# Altium footprint library Connector_PinSocket_1.27mm.PcbLib: 246 footprints (part 13 of 16)
Each footprint in its own frame and in the unit in brackets; x right, y up, seen from the top. Pads: shape width x height; smd on the part's side, far side on the other; paste and mask are expansions set on the pad; w line width, h text height; cw(c..) or ccw(c..) is an arc to the next point about the centre after c.
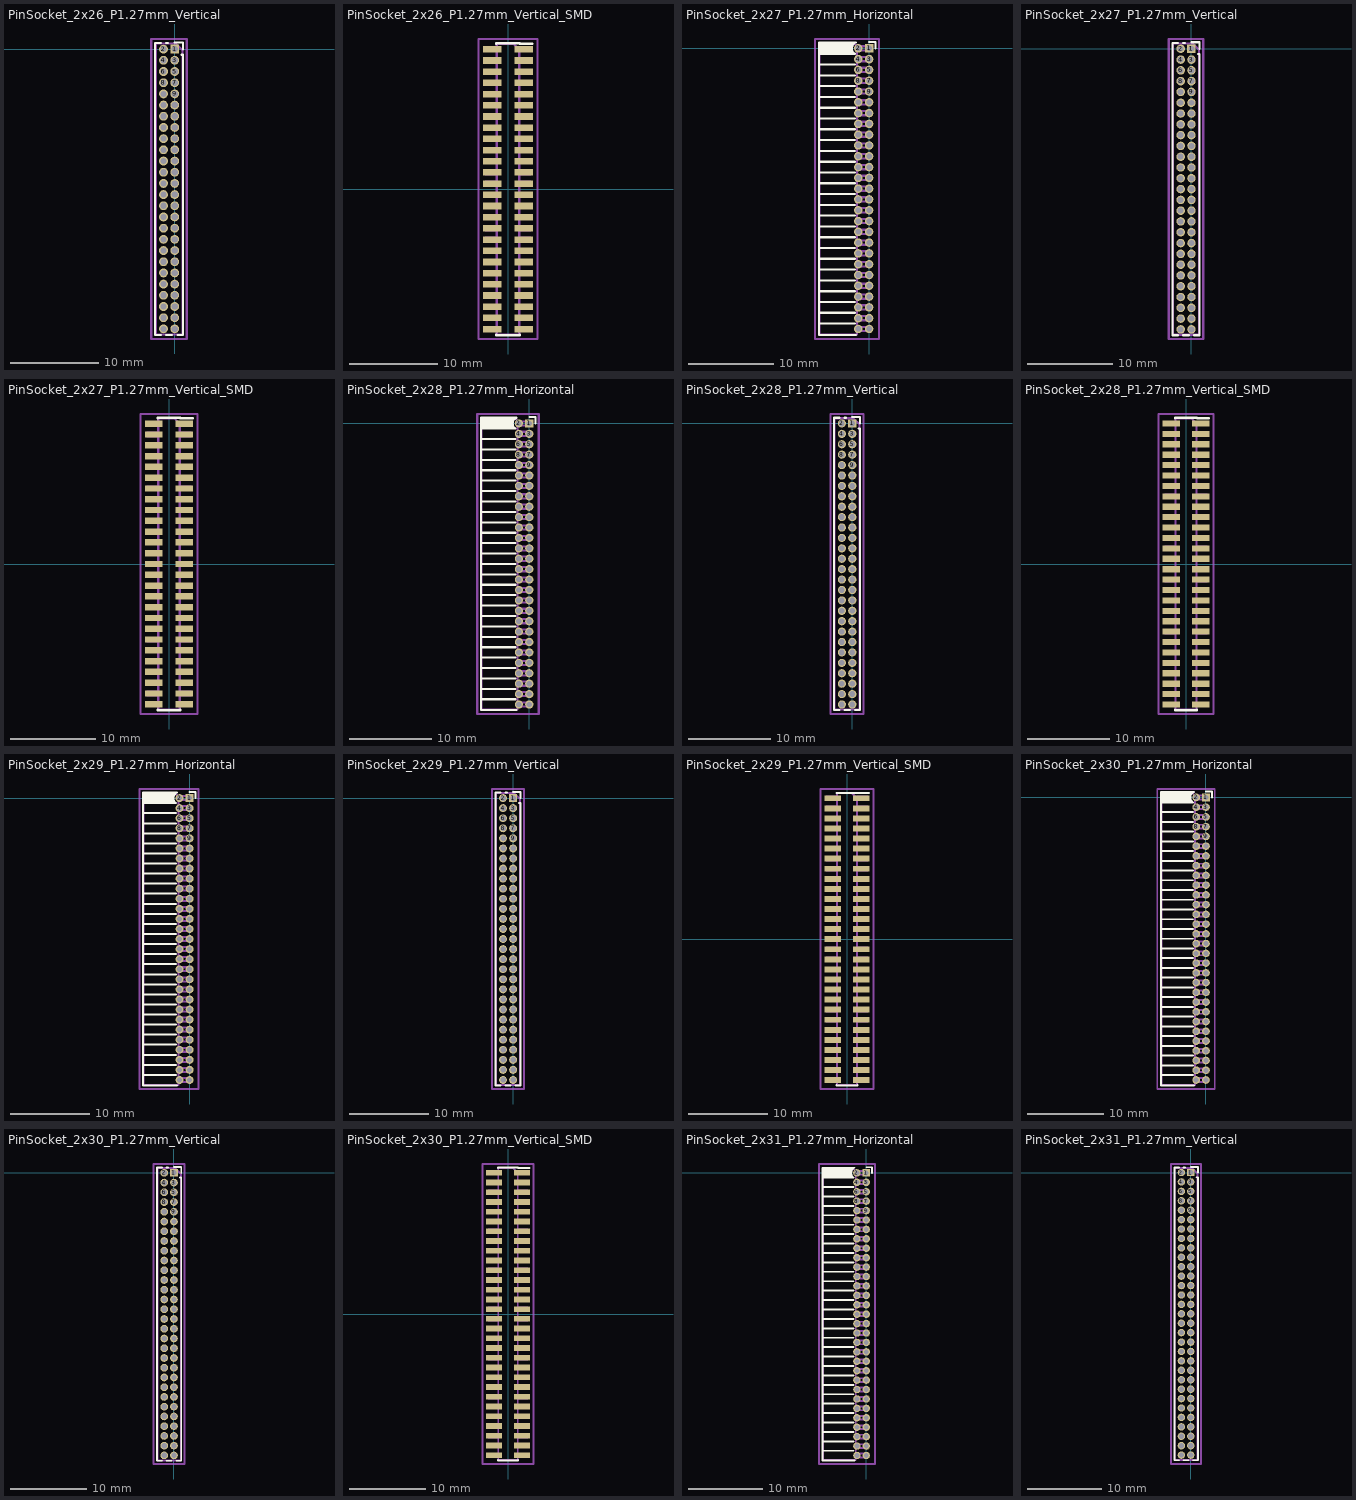
[diagram p12: the footprints below, top view; thin cyan lines are the x and y axes]

## PinSocket_2x26_P1.27mm_Vertical [mm]
pads (52):
  rect 1x1 hole 0.7: 1(0,0)
  round 1 hole 0.7: 2(-1.27,0) 3(0,-1.27) 4(-1.27,-1.27) 5(0,-2.54) 6(-1.27,-2.54) 7(0,-3.81) 8(-1.27,-3.81) 9(0,-5.08) 10(-1.27,-5.08) 11(0,-6.35) 12(-1.27,-6.35) 13(0,-7.62) 14(-1.27,-7.62) 15(0,-8.89) 16(-1.27,-8.89) 17(0,-10.16) 18(-1.27,-10.16) 19(0,-11.43) 20(-1.27,-11.43) 21(0,-12.7) 22(-1.27,-12.7) 23(0,-13.97) 24(-1.27,-13.97) 25(0,-15.24) 26(-1.27,-15.24) 27(0,-16.51) 28(-1.27,-16.51) 29(0,-17.78) 30(-1.27,-17.78) 31(0,-19.05) 32(-1.27,-19.05) 33(0,-20.32) 34(-1.27,-20.32) 35(0,-21.59) 36(-1.27,-21.59) 37(0,-22.86) 38(-1.27,-22.86) 39(0,-24.13) 40(-1.27,-24.13) 41(0,-25.4) 42(-1.27,-25.4) 43(0,-26.67) 44(-1.27,-26.67) 45(0,-27.94) 46(-1.27,-27.94) 47(0,-29.21) 48(-1.27,-29.21) 49(0,-30.48) 50(-1.27,-30.48) 51(0,-31.75) 52(-1.27,-31.75)
F.SilkS:
  lines w0.254: -1.578,-32.445 -2.22,-32.445 -2.22,0.695 -1.578,0.695 ; -0.962,-32.445 -0.308,-32.445 ; -0.962,0.695 -0.76,0.695 ; 0,0.76 0.95,0.76 0.95,0 ; 0.308,-32.445 0.95,-32.445 0.95,-0.635 0.76,-0.635
Top Assembly:
  lines w0.254: -2.16,-32.385 0.89,-32.385 0.89,-0.128 0.128,0.635 -2.16,0.635 -2.16,-32.385
  text "'.Designator'" at 0.205,-19.922 h1
Top Courtyard:
  lines w0.254: -2.67,-32.9 1.38,-32.9 1.38,1.15 -2.67,1.15 -2.67,-32.9
Top Designator:
  text ".Designator" at -8.263,-16.383 h1.52

## PinSocket_2x26_P1.27mm_Vertical_SMD [mm]
pads (52):
  rect 2.1x0.75 smd: 1(1.8,15.875) 2(-1.8,15.875) 3(1.8,14.605) 4(-1.8,14.605) 5(1.8,13.335) 6(-1.8,13.335) 7(1.8,12.065) 8(-1.8,12.065) 9(1.8,10.795) 10(-1.8,10.795) 11(1.8,9.525) 12(-1.8,9.525) 13(1.8,8.255) 14(-1.8,8.255) 15(1.8,6.985) 16(-1.8,6.985) 17(1.8,5.715) 18(-1.8,5.715) 19(1.8,4.445) 20(-1.8,4.445) 21(1.8,3.175) 22(-1.8,3.175) 23(1.8,1.905) 24(-1.8,1.905) 25(1.8,0.635) 26(-1.8,0.635) 27(1.8,-0.635) 28(-1.8,-0.635) 29(1.8,-1.905) 30(-1.8,-1.905) 31(1.8,-3.175) 32(-1.8,-3.175) 33(1.8,-4.445) 34(-1.8,-4.445) 35(1.8,-5.715) 36(-1.8,-5.715) 37(1.8,-6.985) 38(-1.8,-6.985) 39(1.8,-8.255) 40(-1.8,-8.255) 41(1.8,-9.525) 42(-1.8,-9.525) 43(1.8,-10.795) 44(-1.8,-10.795) 45(1.8,-12.065) 46(-1.8,-12.065) 47(1.8,-13.335) 48(-1.8,-13.335) 49(1.8,-14.605) 50(-1.8,-14.605) 51(1.8,-15.875) 52(-1.8,-15.875)
F.SilkS:
  lines w0.254: -1.33,-16.51 -1.33,-16.57 1.33,-16.57 1.33,-16.51 ; -1.33,16.51 -1.33,16.57 1.33,16.57 1.33,16.51 2.79,16.51
Top Assembly:
  drawing of 161 lines, arcs and shapes, not listed
  text "'.Designator'" at 0.84,-4.047 h1
Top Courtyard:
  lines w0.254: -3.35,-17 3.35,-17 3.35,17.05 -3.35,17.05 -3.35,-17
Top Designator:
  text ".Designator" at -7.618,-0.483 h1.52

## PinSocket_2x27_P1.27mm_Horizontal [mm]
pads (54):
  rect 1x1 hole 0.65: 1(0,0)
  round 1 hole 0.65: 2(-1.27,0) 3(0,-1.27) 4(-1.27,-1.27) 5(0,-2.54) 6(-1.27,-2.54) 7(0,-3.81) 8(-1.27,-3.81) 9(0,-5.08) 10(-1.27,-5.08) 11(0,-6.35) 12(-1.27,-6.35) 13(0,-7.62) 14(-1.27,-7.62) 15(0,-8.89) 16(-1.27,-8.89) 17(0,-10.16) 18(-1.27,-10.16) 19(0,-11.43) 20(-1.27,-11.43) 21(0,-12.7) 22(-1.27,-12.7) 23(0,-13.97) 24(-1.27,-13.97) 25(0,-15.24) 26(-1.27,-15.24) 27(0,-16.51) 28(-1.27,-16.51) 29(0,-17.78) 30(-1.27,-17.78) 31(0,-19.05) 32(-1.27,-19.05) 33(0,-20.32) 34(-1.27,-20.32) 35(0,-21.59) 36(-1.27,-21.59) 37(0,-22.86) 38(-1.27,-22.86) 39(0,-24.13) 40(-1.27,-24.13) 41(0,-25.4) 42(-1.27,-25.4) 43(0,-26.67) 44(-1.27,-26.67) 45(0,-27.94) 46(-1.27,-27.94) 47(0,-29.21) 48(-1.27,-29.21) 49(0,-30.48) 50(-1.27,-30.48) 51(0,-31.75) 52(-1.27,-31.75) 53(0,-33.02) 54(-1.27,-33.02)
F.SilkS:
  lines w0.254: -5.88,-32.385 -1.688,-32.385 ; -5.88,-31.115 -1.688,-31.115 ; -5.88,-29.845 -1.688,-29.845 ; -5.88,-28.575 -1.688,-28.575 ; -5.88,-27.305 -1.688,-27.305 ; -5.88,-26.035 -1.688,-26.035 ; -5.88,-24.765 -1.688,-24.765 ; -5.88,-23.495 -1.688,-23.495 ; -5.88,-22.225 -1.688,-22.225 ; -5.88,-20.955 -1.688,-20.955 ; -5.88,-19.685 -1.688,-19.685 ; -5.88,-18.415 -1.688,-18.415 ; -5.88,-17.145 -1.688,-17.145 ; -5.88,-15.875 -1.688,-15.875 ; -5.88,-14.605 -1.688,-14.605 ; -5.88,-13.335 -1.688,-13.335 ; -5.88,-12.065 -1.688,-12.065 ; -5.88,-10.795 -1.688,-10.795 ; -5.88,-9.525 -1.688,-9.525 ; -5.88,-8.255 -1.688,-8.255 ; -5.88,-6.985 -1.688,-6.985 ; -5.88,-5.715 -1.688,-5.715 ; -5.88,-4.445 -1.688,-4.445 ; -5.88,-3.175 -1.688,-3.175 ; -5.88,-1.905 -1.688,-1.905 ; -5.88,-0.635 -1.688,-0.635 ; -5.88,-0.525 -1.82,-0.525 ; -5.88,-0.415 -1.907,-0.415 ; -5.88,-0.305 -1.966,-0.305 ; -5.88,-0.195 -2.005,-0.195 ; -5.88,-0.085 -2.025,-0.085 ; -5.88,0.025 -2.03,0.025 ; -5.88,0.135 -2.018,0.135 ; -5.88,0.245 -1.989,0.245 ; -5.88,0.355 -1.942,0.355 ; -5.88,0.465 -1.871,0.465 ; -5.88,0.575 -1.767,0.575 ; -1.578,-33.715 -5.88,-33.715 -5.88,0.695 -1.578,0.695 ; 0,0.76 0.76,0.76 0.76,0
Top Assembly:
  lines w0.254: -1.42,-33.27 0,-33.27 0,-32.77 -1.42,-32.77 ; -1.42,-32 0,-32 0,-31.5 -1.42,-31.5 ; -1.42,-30.73 0,-30.73 0,-30.23 -1.42,-30.23 ; -1.42,-29.46 0,-29.46 0,-28.96 -1.42,-28.96 ; -1.42,-28.19 0,-28.19 0,-27.69 -1.42,-27.69 ; -1.42,-26.92 0,-26.92 0,-26.42 -1.42,-26.42 ; -1.42,-25.65 0,-25.65 0,-25.15 -1.42,-25.15 ; -1.42,-24.38 0,-24.38 0,-23.88 -1.42,-23.88 ; -1.42,-23.11 0,-23.11 0,-22.61 -1.42,-22.61 ; -1.42,-21.84 0,-21.84 0,-21.34 -1.42,-21.34 ; -1.42,-20.57 0,-20.57 0,-20.07 -1.42,-20.07 ; -1.42,-19.3 0,-19.3 0,-18.8 -1.42,-18.8 ; -1.42,-18.03 0,-18.03 0,-17.53 -1.42,-17.53 ; -1.42,-16.76 0,-16.76 0,-16.26 -1.42,-16.26 ; -1.42,-15.49 0,-15.49 0,-14.99 -1.42,-14.99 ; -1.42,-14.22 0,-14.22 0,-13.72 -1.42,-13.72 ; -1.42,-12.95 0,-12.95 0,-12.45 -1.42,-12.45 ; -1.42,-11.68 0,-11.68 0,-11.18 -1.42,-11.18 ; -1.42,-10.41 0,-10.41 0,-9.91 -1.42,-9.91 ; -1.42,-9.14 0,-9.14 0,-8.64 -1.42,-8.64 ; -1.42,-7.87 0,-7.87 0,-7.37 -1.42,-7.37 ; -1.42,-6.6 0,-6.6 0,-6.1 -1.42,-6.1 ; -1.42,-5.33 0,-5.33 0,-4.83 -1.42,-4.83 ; -1.42,-4.06 0,-4.06 0,-3.56 -1.42,-3.56 ; -1.42,-2.79 0,-2.79 0,-2.29 -1.42,-2.29 ; -1.42,-1.52 0,-1.52 0,-1.02 -1.42,-1.02 ; -1.42,-0.25 0,-0.25 0,0.25 -1.42,0.25 ; -1.42,0.25 -1.42,-33.655 -5.82,-33.655 -5.82,0.635 -1.805,0.635 -1.42,0.25
  text "'.Designator'" at -2.78,-20.557 h1
Top Courtyard:
  lines w0.254: -6.35,-34.2 1.15,-34.2 1.15,1.1 -6.35,1.1 -6.35,-34.2
Top Designator:
  text ".Designator" at -10.218,-17.058 h1.52

## PinSocket_2x27_P1.27mm_Vertical [mm]
pads (54):
  rect 1x1 hole 0.7: 1(0,0)
  round 1 hole 0.7: 2(-1.27,0) 3(0,-1.27) 4(-1.27,-1.27) 5(0,-2.54) 6(-1.27,-2.54) 7(0,-3.81) 8(-1.27,-3.81) 9(0,-5.08) 10(-1.27,-5.08) 11(0,-6.35) 12(-1.27,-6.35) 13(0,-7.62) 14(-1.27,-7.62) 15(0,-8.89) 16(-1.27,-8.89) 17(0,-10.16) 18(-1.27,-10.16) 19(0,-11.43) 20(-1.27,-11.43) 21(0,-12.7) 22(-1.27,-12.7) 23(0,-13.97) 24(-1.27,-13.97) 25(0,-15.24) 26(-1.27,-15.24) 27(0,-16.51) 28(-1.27,-16.51) 29(0,-17.78) 30(-1.27,-17.78) 31(0,-19.05) 32(-1.27,-19.05) 33(0,-20.32) 34(-1.27,-20.32) 35(0,-21.59) 36(-1.27,-21.59) 37(0,-22.86) 38(-1.27,-22.86) 39(0,-24.13) 40(-1.27,-24.13) 41(0,-25.4) 42(-1.27,-25.4) 43(0,-26.67) 44(-1.27,-26.67) 45(0,-27.94) 46(-1.27,-27.94) 47(0,-29.21) 48(-1.27,-29.21) 49(0,-30.48) 50(-1.27,-30.48) 51(0,-31.75) 52(-1.27,-31.75) 53(0,-33.02) 54(-1.27,-33.02)
F.SilkS:
  lines w0.254: -1.578,-33.715 -2.22,-33.715 -2.22,0.695 -1.578,0.695 ; -0.962,-33.715 -0.308,-33.715 ; -0.962,0.695 -0.76,0.695 ; 0,0.76 0.95,0.76 0.95,0 ; 0.308,-33.715 0.95,-33.715 0.95,-0.635 0.76,-0.635
Top Assembly:
  lines w0.254: -2.16,-33.655 0.89,-33.655 0.89,-0.128 0.128,0.635 -2.16,0.635 -2.16,-33.655
  text "'.Designator'" at 0.205,-20.557 h1
Top Courtyard:
  lines w0.254: -2.67,-34.15 1.38,-34.15 1.38,1.15 -2.67,1.15 -2.67,-34.15
Top Designator:
  text ".Designator" at -8.263,-17.008 h1.52

## PinSocket_2x27_P1.27mm_Vertical_SMD [mm]
pads (54):
  rect 2.1x0.75 smd: 1(1.8,16.51) 2(-1.8,16.51) 3(1.8,15.24) 4(-1.8,15.24) 5(1.8,13.97) 6(-1.8,13.97) 7(1.8,12.7) 8(-1.8,12.7) 9(1.8,11.43) 10(-1.8,11.43) 11(1.8,10.16) 12(-1.8,10.16) 13(1.8,8.89) 14(-1.8,8.89) 15(1.8,7.62) 16(-1.8,7.62) 17(1.8,6.35) 18(-1.8,6.35) 19(1.8,5.08) 20(-1.8,5.08) 21(1.8,3.81) 22(-1.8,3.81) 23(1.8,2.54) 24(-1.8,2.54) 25(1.8,1.27) 26(-1.8,1.27) 27(1.8,0) 28(-1.8,0) 29(1.8,-1.27) 30(-1.8,-1.27) 31(1.8,-2.54) 32(-1.8,-2.54) 33(1.8,-3.81) 34(-1.8,-3.81) 35(1.8,-5.08) 36(-1.8,-5.08) 37(1.8,-6.35) 38(-1.8,-6.35) 39(1.8,-7.62) 40(-1.8,-7.62) 41(1.8,-8.89) 42(-1.8,-8.89) 43(1.8,-10.16) 44(-1.8,-10.16) 45(1.8,-11.43) 46(-1.8,-11.43) 47(1.8,-12.7) 48(-1.8,-12.7) 49(1.8,-13.97) 50(-1.8,-13.97) 51(1.8,-15.24) 52(-1.8,-15.24) 53(1.8,-16.51) 54(-1.8,-16.51)
F.SilkS:
  lines w0.254: -1.33,-17.145 -1.33,-17.205 1.33,-17.205 1.33,-17.145 ; -1.33,17.145 -1.33,17.205 1.33,17.205 1.33,17.145 2.79,17.145
Top Assembly:
  drawing of 167 lines, arcs and shapes, not listed
  text "'.Designator'" at 0.84,-4.047 h1
Top Courtyard:
  lines w0.254: -3.35,-17.65 3.35,-17.65 3.35,17.65 -3.35,17.65 -3.35,-17.65
Top Designator:
  text ".Designator" at -7.618,-0.508 h1.52

## PinSocket_2x28_P1.27mm_Horizontal [mm]
pads (56):
  rect 1x1 hole 0.65: 1(0,0)
  round 1 hole 0.65: 2(-1.27,0) 3(0,-1.27) 4(-1.27,-1.27) 5(0,-2.54) 6(-1.27,-2.54) 7(0,-3.81) 8(-1.27,-3.81) 9(0,-5.08) 10(-1.27,-5.08) 11(0,-6.35) 12(-1.27,-6.35) 13(0,-7.62) 14(-1.27,-7.62) 15(0,-8.89) 16(-1.27,-8.89) 17(0,-10.16) 18(-1.27,-10.16) 19(0,-11.43) 20(-1.27,-11.43) 21(0,-12.7) 22(-1.27,-12.7) 23(0,-13.97) 24(-1.27,-13.97) 25(0,-15.24) 26(-1.27,-15.24) 27(0,-16.51) 28(-1.27,-16.51) 29(0,-17.78) 30(-1.27,-17.78) 31(0,-19.05) 32(-1.27,-19.05) 33(0,-20.32) 34(-1.27,-20.32) 35(0,-21.59) 36(-1.27,-21.59) 37(0,-22.86) 38(-1.27,-22.86) 39(0,-24.13) 40(-1.27,-24.13) 41(0,-25.4) 42(-1.27,-25.4) 43(0,-26.67) 44(-1.27,-26.67) 45(0,-27.94) 46(-1.27,-27.94) 47(0,-29.21) 48(-1.27,-29.21) 49(0,-30.48) 50(-1.27,-30.48) 51(0,-31.75) 52(-1.27,-31.75) 53(0,-33.02) 54(-1.27,-33.02) 55(0,-34.29) 56(-1.27,-34.29)
F.SilkS:
  lines w0.254: -5.88,-33.655 -1.688,-33.655 ; -5.88,-32.385 -1.688,-32.385 ; -5.88,-31.115 -1.688,-31.115 ; -5.88,-29.845 -1.688,-29.845 ; -5.88,-28.575 -1.688,-28.575 ; -5.88,-27.305 -1.688,-27.305 ; -5.88,-26.035 -1.688,-26.035 ; -5.88,-24.765 -1.688,-24.765 ; -5.88,-23.495 -1.688,-23.495 ; -5.88,-22.225 -1.688,-22.225 ; -5.88,-20.955 -1.688,-20.955 ; -5.88,-19.685 -1.688,-19.685 ; -5.88,-18.415 -1.688,-18.415 ; -5.88,-17.145 -1.688,-17.145 ; -5.88,-15.875 -1.688,-15.875 ; -5.88,-14.605 -1.688,-14.605 ; -5.88,-13.335 -1.688,-13.335 ; -5.88,-12.065 -1.688,-12.065 ; -5.88,-10.795 -1.688,-10.795 ; -5.88,-9.525 -1.688,-9.525 ; -5.88,-8.255 -1.688,-8.255 ; -5.88,-6.985 -1.688,-6.985 ; -5.88,-5.715 -1.688,-5.715 ; -5.88,-4.445 -1.688,-4.445 ; -5.88,-3.175 -1.688,-3.175 ; -5.88,-1.905 -1.688,-1.905 ; -5.88,-0.635 -1.688,-0.635 ; -5.88,-0.525 -1.82,-0.525 ; -5.88,-0.415 -1.907,-0.415 ; -5.88,-0.305 -1.966,-0.305 ; -5.88,-0.195 -2.005,-0.195 ; -5.88,-0.085 -2.025,-0.085 ; -5.88,0.025 -2.03,0.025 ; -5.88,0.135 -2.018,0.135 ; -5.88,0.245 -1.989,0.245 ; -5.88,0.355 -1.942,0.355 ; -5.88,0.465 -1.871,0.465 ; -5.88,0.575 -1.767,0.575 ; -1.578,-34.985 -5.88,-34.985 -5.88,0.695 -1.578,0.695 ; 0,0.76 0.76,0.76 0.76,0
Top Assembly:
  lines w0.254: -1.42,-34.54 0,-34.54 0,-34.04 -1.42,-34.04 ; -1.42,-33.27 0,-33.27 0,-32.77 -1.42,-32.77 ; -1.42,-32 0,-32 0,-31.5 -1.42,-31.5 ; -1.42,-30.73 0,-30.73 0,-30.23 -1.42,-30.23 ; -1.42,-29.46 0,-29.46 0,-28.96 -1.42,-28.96 ; -1.42,-28.19 0,-28.19 0,-27.69 -1.42,-27.69 ; -1.42,-26.92 0,-26.92 0,-26.42 -1.42,-26.42 ; -1.42,-25.65 0,-25.65 0,-25.15 -1.42,-25.15 ; -1.42,-24.38 0,-24.38 0,-23.88 -1.42,-23.88 ; -1.42,-23.11 0,-23.11 0,-22.61 -1.42,-22.61 ; -1.42,-21.84 0,-21.84 0,-21.34 -1.42,-21.34 ; -1.42,-20.57 0,-20.57 0,-20.07 -1.42,-20.07 ; -1.42,-19.3 0,-19.3 0,-18.8 -1.42,-18.8 ; -1.42,-18.03 0,-18.03 0,-17.53 -1.42,-17.53 ; -1.42,-16.76 0,-16.76 0,-16.26 -1.42,-16.26 ; -1.42,-15.49 0,-15.49 0,-14.99 -1.42,-14.99 ; -1.42,-14.22 0,-14.22 0,-13.72 -1.42,-13.72 ; -1.42,-12.95 0,-12.95 0,-12.45 -1.42,-12.45 ; -1.42,-11.68 0,-11.68 0,-11.18 -1.42,-11.18 ; -1.42,-10.41 0,-10.41 0,-9.91 -1.42,-9.91 ; -1.42,-9.14 0,-9.14 0,-8.64 -1.42,-8.64 ; -1.42,-7.87 0,-7.87 0,-7.37 -1.42,-7.37 ; -1.42,-6.6 0,-6.6 0,-6.1 -1.42,-6.1 ; -1.42,-5.33 0,-5.33 0,-4.83 -1.42,-4.83 ; -1.42,-4.06 0,-4.06 0,-3.56 -1.42,-3.56 ; -1.42,-2.79 0,-2.79 0,-2.29 -1.42,-2.29 ; -1.42,-1.52 0,-1.52 0,-1.02 -1.42,-1.02 ; -1.42,-0.25 0,-0.25 0,0.25 -1.42,0.25 ; -1.42,0.25 -1.42,-34.925 -5.82,-34.925 -5.82,0.635 -1.805,0.635 -1.42,0.25
  text "'.Designator'" at -2.78,-21.192 h1
Top Courtyard:
  lines w0.254: -6.35,-35.45 1.15,-35.45 1.15,1.15 -6.35,1.15 -6.35,-35.45
Top Designator:
  text ".Designator" at -10.218,-17.658 h1.52

## PinSocket_2x28_P1.27mm_Vertical [mm]
pads (56):
  rect 1x1 hole 0.7: 1(0,0)
  round 1 hole 0.7: 2(-1.27,0) 3(0,-1.27) 4(-1.27,-1.27) 5(0,-2.54) 6(-1.27,-2.54) 7(0,-3.81) 8(-1.27,-3.81) 9(0,-5.08) 10(-1.27,-5.08) 11(0,-6.35) 12(-1.27,-6.35) 13(0,-7.62) 14(-1.27,-7.62) 15(0,-8.89) 16(-1.27,-8.89) 17(0,-10.16) 18(-1.27,-10.16) 19(0,-11.43) 20(-1.27,-11.43) 21(0,-12.7) 22(-1.27,-12.7) 23(0,-13.97) 24(-1.27,-13.97) 25(0,-15.24) 26(-1.27,-15.24) 27(0,-16.51) 28(-1.27,-16.51) 29(0,-17.78) 30(-1.27,-17.78) 31(0,-19.05) 32(-1.27,-19.05) 33(0,-20.32) 34(-1.27,-20.32) 35(0,-21.59) 36(-1.27,-21.59) 37(0,-22.86) 38(-1.27,-22.86) 39(0,-24.13) 40(-1.27,-24.13) 41(0,-25.4) 42(-1.27,-25.4) 43(0,-26.67) 44(-1.27,-26.67) 45(0,-27.94) 46(-1.27,-27.94) 47(0,-29.21) 48(-1.27,-29.21) 49(0,-30.48) 50(-1.27,-30.48) 51(0,-31.75) 52(-1.27,-31.75) 53(0,-33.02) 54(-1.27,-33.02) 55(0,-34.29) 56(-1.27,-34.29)
F.SilkS:
  lines w0.254: -1.578,-34.985 -2.22,-34.985 -2.22,0.695 -1.578,0.695 ; -0.962,-34.985 -0.308,-34.985 ; -0.962,0.695 -0.76,0.695 ; 0,0.76 0.95,0.76 0.95,0 ; 0.308,-34.985 0.95,-34.985 0.95,-0.635 0.76,-0.635
Top Assembly:
  lines w0.254: -2.16,-34.925 0.89,-34.925 0.89,-0.128 0.128,0.635 -2.16,0.635 -2.16,-34.925
  text "'.Designator'" at 0.205,-21.192 h1
Top Courtyard:
  lines w0.254: -2.67,-35.45 1.38,-35.45 1.38,1.15 -2.67,1.15 -2.67,-35.45
Top Designator:
  text ".Designator" at -8.263,-17.658 h1.52

## PinSocket_2x28_P1.27mm_Vertical_SMD [mm]
pads (56):
  rect 2.1x0.75 smd: 1(1.8,17.145) 2(-1.8,17.145) 3(1.8,15.875) 4(-1.8,15.875) 5(1.8,14.605) 6(-1.8,14.605) 7(1.8,13.335) 8(-1.8,13.335) 9(1.8,12.065) 10(-1.8,12.065) 11(1.8,10.795) 12(-1.8,10.795) 13(1.8,9.525) 14(-1.8,9.525) 15(1.8,8.255) 16(-1.8,8.255) 17(1.8,6.985) 18(-1.8,6.985) 19(1.8,5.715) 20(-1.8,5.715) 21(1.8,4.445) 22(-1.8,4.445) 23(1.8,3.175) 24(-1.8,3.175) 25(1.8,1.905) 26(-1.8,1.905) 27(1.8,0.635) 28(-1.8,0.635) 29(1.8,-0.635) 30(-1.8,-0.635) 31(1.8,-1.905) 32(-1.8,-1.905) 33(1.8,-3.175) 34(-1.8,-3.175) 35(1.8,-4.445) 36(-1.8,-4.445) 37(1.8,-5.715) 38(-1.8,-5.715) 39(1.8,-6.985) 40(-1.8,-6.985) 41(1.8,-8.255) 42(-1.8,-8.255) 43(1.8,-9.525) 44(-1.8,-9.525) 45(1.8,-10.795) 46(-1.8,-10.795) 47(1.8,-12.065) 48(-1.8,-12.065) 49(1.8,-13.335) 50(-1.8,-13.335) 51(1.8,-14.605) 52(-1.8,-14.605) 53(1.8,-15.875) 54(-1.8,-15.875) 55(1.8,-17.145) 56(-1.8,-17.145)
F.SilkS:
  lines w0.254: -1.33,-17.78 -1.33,-17.84 1.33,-17.84 1.33,-17.78 ; -1.33,17.78 -1.33,17.84 1.33,17.84 1.33,17.78 2.79,17.78
Top Assembly:
  drawing of 173 lines, arcs and shapes, not listed
  text "'.Designator'" at 0.84,-4.047 h1
Top Courtyard:
  lines w0.254: -3.35,-18.3 3.35,-18.3 3.35,18.3 -3.35,18.3 -3.35,-18.3
Top Designator:
  text ".Designator" at -7.618,-0.508 h1.52

## PinSocket_2x29_P1.27mm_Horizontal [mm]
pads (58):
  rect 1x1 hole 0.65: 1(0,0)
  round 1 hole 0.65: 2(-1.27,0) 3(0,-1.27) 4(-1.27,-1.27) 5(0,-2.54) 6(-1.27,-2.54) 7(0,-3.81) 8(-1.27,-3.81) 9(0,-5.08) 10(-1.27,-5.08) 11(0,-6.35) 12(-1.27,-6.35) 13(0,-7.62) 14(-1.27,-7.62) 15(0,-8.89) 16(-1.27,-8.89) 17(0,-10.16) 18(-1.27,-10.16) 19(0,-11.43) 20(-1.27,-11.43) 21(0,-12.7) 22(-1.27,-12.7) 23(0,-13.97) 24(-1.27,-13.97) 25(0,-15.24) 26(-1.27,-15.24) 27(0,-16.51) 28(-1.27,-16.51) 29(0,-17.78) 30(-1.27,-17.78) 31(0,-19.05) 32(-1.27,-19.05) 33(0,-20.32) 34(-1.27,-20.32) 35(0,-21.59) 36(-1.27,-21.59) 37(0,-22.86) 38(-1.27,-22.86) 39(0,-24.13) 40(-1.27,-24.13) 41(0,-25.4) 42(-1.27,-25.4) 43(0,-26.67) 44(-1.27,-26.67) 45(0,-27.94) 46(-1.27,-27.94) 47(0,-29.21) 48(-1.27,-29.21) 49(0,-30.48) 50(-1.27,-30.48) 51(0,-31.75) 52(-1.27,-31.75) 53(0,-33.02) 54(-1.27,-33.02) 55(0,-34.29) 56(-1.27,-34.29) 57(0,-35.56) 58(-1.27,-35.56)
F.SilkS:
  lines w0.254: -5.88,-34.925 -1.688,-34.925 ; -5.88,-33.655 -1.688,-33.655 ; -5.88,-32.385 -1.688,-32.385 ; -5.88,-31.115 -1.688,-31.115 ; -5.88,-29.845 -1.688,-29.845 ; -5.88,-28.575 -1.688,-28.575 ; -5.88,-27.305 -1.688,-27.305 ; -5.88,-26.035 -1.688,-26.035 ; -5.88,-24.765 -1.688,-24.765 ; -5.88,-23.495 -1.688,-23.495 ; -5.88,-22.225 -1.688,-22.225 ; -5.88,-20.955 -1.688,-20.955 ; -5.88,-19.685 -1.688,-19.685 ; -5.88,-18.415 -1.688,-18.415 ; -5.88,-17.145 -1.688,-17.145 ; -5.88,-15.875 -1.688,-15.875 ; -5.88,-14.605 -1.688,-14.605 ; -5.88,-13.335 -1.688,-13.335 ; -5.88,-12.065 -1.688,-12.065 ; -5.88,-10.795 -1.688,-10.795 ; -5.88,-9.525 -1.688,-9.525 ; -5.88,-8.255 -1.688,-8.255 ; -5.88,-6.985 -1.688,-6.985 ; -5.88,-5.715 -1.688,-5.715 ; -5.88,-4.445 -1.688,-4.445 ; -5.88,-3.175 -1.688,-3.175 ; -5.88,-1.905 -1.688,-1.905 ; -5.88,-0.635 -1.688,-0.635 ; -5.88,-0.525 -1.82,-0.525 ; -5.88,-0.415 -1.907,-0.415 ; -5.88,-0.305 -1.966,-0.305 ; -5.88,-0.195 -2.005,-0.195 ; -5.88,-0.085 -2.025,-0.085 ; -5.88,0.025 -2.03,0.025 ; -5.88,0.135 -2.018,0.135 ; -5.88,0.245 -1.989,0.245 ; -5.88,0.355 -1.942,0.355 ; -5.88,0.465 -1.871,0.465 ; -5.88,0.575 -1.767,0.575 ; -1.578,-36.255 -5.88,-36.255 -5.88,0.695 -1.578,0.695 ; 0,0.76 0.76,0.76 0.76,0
Top Assembly:
  lines w0.254: -1.42,-35.81 0,-35.81 0,-35.31 -1.42,-35.31 ; -1.42,-34.54 0,-34.54 0,-34.04 -1.42,-34.04 ; -1.42,-33.27 0,-33.27 0,-32.77 -1.42,-32.77 ; -1.42,-32 0,-32 0,-31.5 -1.42,-31.5 ; -1.42,-30.73 0,-30.73 0,-30.23 -1.42,-30.23 ; -1.42,-29.46 0,-29.46 0,-28.96 -1.42,-28.96 ; -1.42,-28.19 0,-28.19 0,-27.69 -1.42,-27.69 ; -1.42,-26.92 0,-26.92 0,-26.42 -1.42,-26.42 ; -1.42,-25.65 0,-25.65 0,-25.15 -1.42,-25.15 ; -1.42,-24.38 0,-24.38 0,-23.88 -1.42,-23.88 ; -1.42,-23.11 0,-23.11 0,-22.61 -1.42,-22.61 ; -1.42,-21.84 0,-21.84 0,-21.34 -1.42,-21.34 ; -1.42,-20.57 0,-20.57 0,-20.07 -1.42,-20.07 ; -1.42,-19.3 0,-19.3 0,-18.8 -1.42,-18.8 ; -1.42,-18.03 0,-18.03 0,-17.53 -1.42,-17.53 ; -1.42,-16.76 0,-16.76 0,-16.26 -1.42,-16.26 ; -1.42,-15.49 0,-15.49 0,-14.99 -1.42,-14.99 ; -1.42,-14.22 0,-14.22 0,-13.72 -1.42,-13.72 ; -1.42,-12.95 0,-12.95 0,-12.45 -1.42,-12.45 ; -1.42,-11.68 0,-11.68 0,-11.18 -1.42,-11.18 ; -1.42,-10.41 0,-10.41 0,-9.91 -1.42,-9.91 ; -1.42,-9.14 0,-9.14 0,-8.64 -1.42,-8.64 ; -1.42,-7.87 0,-7.87 0,-7.37 -1.42,-7.37 ; -1.42,-6.6 0,-6.6 0,-6.1 -1.42,-6.1 ; -1.42,-5.33 0,-5.33 0,-4.83 -1.42,-4.83 ; -1.42,-4.06 0,-4.06 0,-3.56 -1.42,-3.56 ; -1.42,-2.79 0,-2.79 0,-2.29 -1.42,-2.29 ; -1.42,-1.52 0,-1.52 0,-1.02 -1.42,-1.02 ; -1.42,-0.25 0,-0.25 0,0.25 -1.42,0.25 ; -1.42,0.25 -1.42,-36.195 -5.82,-36.195 -5.82,0.635 -1.805,0.635 -1.42,0.25
  text "'.Designator'" at -2.78,-21.827 h1
Top Courtyard:
  lines w0.254: -6.35,-36.7 1.15,-36.7 1.15,1.15 -6.35,1.15 -6.35,-36.7
Top Designator:
  text ".Designator" at -10.218,-18.283 h1.52

## PinSocket_2x29_P1.27mm_Vertical [mm]
pads (58):
  rect 1x1 hole 0.7: 1(0,0)
  round 1 hole 0.7: 2(-1.27,0) 3(0,-1.27) 4(-1.27,-1.27) 5(0,-2.54) 6(-1.27,-2.54) 7(0,-3.81) 8(-1.27,-3.81) 9(0,-5.08) 10(-1.27,-5.08) 11(0,-6.35) 12(-1.27,-6.35) 13(0,-7.62) 14(-1.27,-7.62) 15(0,-8.89) 16(-1.27,-8.89) 17(0,-10.16) 18(-1.27,-10.16) 19(0,-11.43) 20(-1.27,-11.43) 21(0,-12.7) 22(-1.27,-12.7) 23(0,-13.97) 24(-1.27,-13.97) 25(0,-15.24) 26(-1.27,-15.24) 27(0,-16.51) 28(-1.27,-16.51) 29(0,-17.78) 30(-1.27,-17.78) 31(0,-19.05) 32(-1.27,-19.05) 33(0,-20.32) 34(-1.27,-20.32) 35(0,-21.59) 36(-1.27,-21.59) 37(0,-22.86) 38(-1.27,-22.86) 39(0,-24.13) 40(-1.27,-24.13) 41(0,-25.4) 42(-1.27,-25.4) 43(0,-26.67) 44(-1.27,-26.67) 45(0,-27.94) 46(-1.27,-27.94) 47(0,-29.21) 48(-1.27,-29.21) 49(0,-30.48) 50(-1.27,-30.48) 51(0,-31.75) 52(-1.27,-31.75) 53(0,-33.02) 54(-1.27,-33.02) 55(0,-34.29) 56(-1.27,-34.29) 57(0,-35.56) 58(-1.27,-35.56)
F.SilkS:
  lines w0.254: -1.578,-36.255 -2.22,-36.255 -2.22,0.695 -1.578,0.695 ; -0.962,-36.255 -0.308,-36.255 ; -0.962,0.695 -0.76,0.695 ; 0,0.76 0.95,0.76 0.95,0 ; 0.308,-36.255 0.95,-36.255 0.95,-0.635 0.76,-0.635
Top Assembly:
  lines w0.254: -2.16,-36.195 0.89,-36.195 0.89,-0.128 0.128,0.635 -2.16,0.635 -2.16,-36.195
  text "'.Designator'" at 0.205,-21.827 h1
Top Courtyard:
  lines w0.254: -2.67,-36.7 1.38,-36.7 1.38,1.15 -2.67,1.15 -2.67,-36.7
Top Designator:
  text ".Designator" at -8.263,-18.283 h1.52

## PinSocket_2x29_P1.27mm_Vertical_SMD [mm]
pads (58):
  rect 2.1x0.75 smd: 1(1.8,17.78) 2(-1.8,17.78) 3(1.8,16.51) 4(-1.8,16.51) 5(1.8,15.24) 6(-1.8,15.24) 7(1.8,13.97) 8(-1.8,13.97) 9(1.8,12.7) 10(-1.8,12.7) 11(1.8,11.43) 12(-1.8,11.43) 13(1.8,10.16) 14(-1.8,10.16) 15(1.8,8.89) 16(-1.8,8.89) 17(1.8,7.62) 18(-1.8,7.62) 19(1.8,6.35) 20(-1.8,6.35) 21(1.8,5.08) 22(-1.8,5.08) 23(1.8,3.81) 24(-1.8,3.81) 25(1.8,2.54) 26(-1.8,2.54) 27(1.8,1.27) 28(-1.8,1.27) 29(1.8,0) 30(-1.8,0) 31(1.8,-1.27) 32(-1.8,-1.27) 33(1.8,-2.54) 34(-1.8,-2.54) 35(1.8,-3.81) 36(-1.8,-3.81) 37(1.8,-5.08) 38(-1.8,-5.08) 39(1.8,-6.35) 40(-1.8,-6.35) 41(1.8,-7.62) 42(-1.8,-7.62) 43(1.8,-8.89) 44(-1.8,-8.89) 45(1.8,-10.16) 46(-1.8,-10.16) 47(1.8,-11.43) 48(-1.8,-11.43) 49(1.8,-12.7) 50(-1.8,-12.7) 51(1.8,-13.97) 52(-1.8,-13.97) 53(1.8,-15.24) 54(-1.8,-15.24) 55(1.8,-16.51) 56(-1.8,-16.51) 57(1.8,-17.78) 58(-1.8,-17.78)
F.SilkS:
  lines w0.254: -1.33,-18.415 -1.33,-18.475 1.33,-18.475 1.33,-18.415 ; -1.33,18.415 -1.33,18.475 1.33,18.475 1.33,18.415 2.79,18.415
Top Assembly:
  drawing of 179 lines, arcs and shapes, not listed
  text "'.Designator'" at 0.84,-4.047 h1
Top Courtyard:
  lines w0.254: -3.35,-18.9 3.35,-18.9 3.35,18.95 -3.35,18.95 -3.35,-18.9
Top Designator:
  text ".Designator" at -7.618,-0.483 h1.52

## PinSocket_2x30_P1.27mm_Horizontal [mm]
pads (60):
  rect 1x1 hole 0.65: 1(0,0)
  round 1 hole 0.65: 2(-1.27,0) 3(0,-1.27) 4(-1.27,-1.27) 5(0,-2.54) 6(-1.27,-2.54) 7(0,-3.81) 8(-1.27,-3.81) 9(0,-5.08) 10(-1.27,-5.08) 11(0,-6.35) 12(-1.27,-6.35) 13(0,-7.62) 14(-1.27,-7.62) 15(0,-8.89) 16(-1.27,-8.89) 17(0,-10.16) 18(-1.27,-10.16) 19(0,-11.43) 20(-1.27,-11.43) 21(0,-12.7) 22(-1.27,-12.7) 23(0,-13.97) 24(-1.27,-13.97) 25(0,-15.24) 26(-1.27,-15.24) 27(0,-16.51) 28(-1.27,-16.51) 29(0,-17.78) 30(-1.27,-17.78) 31(0,-19.05) 32(-1.27,-19.05) 33(0,-20.32) 34(-1.27,-20.32) 35(0,-21.59) 36(-1.27,-21.59) 37(0,-22.86) 38(-1.27,-22.86) 39(0,-24.13) 40(-1.27,-24.13) 41(0,-25.4) 42(-1.27,-25.4) 43(0,-26.67) 44(-1.27,-26.67) 45(0,-27.94) 46(-1.27,-27.94) 47(0,-29.21) 48(-1.27,-29.21) 49(0,-30.48) 50(-1.27,-30.48) 51(0,-31.75) 52(-1.27,-31.75) 53(0,-33.02) 54(-1.27,-33.02) 55(0,-34.29) 56(-1.27,-34.29) 57(0,-35.56) 58(-1.27,-35.56) 59(0,-36.83) 60(-1.27,-36.83)
F.SilkS:
  lines w0.254: -5.88,-36.195 -1.688,-36.195 ; -5.88,-34.925 -1.688,-34.925 ; -5.88,-33.655 -1.688,-33.655 ; -5.88,-32.385 -1.688,-32.385 ; -5.88,-31.115 -1.688,-31.115 ; -5.88,-29.845 -1.688,-29.845 ; -5.88,-28.575 -1.688,-28.575 ; -5.88,-27.305 -1.688,-27.305 ; -5.88,-26.035 -1.688,-26.035 ; -5.88,-24.765 -1.688,-24.765 ; -5.88,-23.495 -1.688,-23.495 ; -5.88,-22.225 -1.688,-22.225 ; -5.88,-20.955 -1.688,-20.955 ; -5.88,-19.685 -1.688,-19.685 ; -5.88,-18.415 -1.688,-18.415 ; -5.88,-17.145 -1.688,-17.145 ; -5.88,-15.875 -1.688,-15.875 ; -5.88,-14.605 -1.688,-14.605 ; -5.88,-13.335 -1.688,-13.335 ; -5.88,-12.065 -1.688,-12.065 ; -5.88,-10.795 -1.688,-10.795 ; -5.88,-9.525 -1.688,-9.525 ; -5.88,-8.255 -1.688,-8.255 ; -5.88,-6.985 -1.688,-6.985 ; -5.88,-5.715 -1.688,-5.715 ; -5.88,-4.445 -1.688,-4.445 ; -5.88,-3.175 -1.688,-3.175 ; -5.88,-1.905 -1.688,-1.905 ; -5.88,-0.635 -1.688,-0.635 ; -5.88,-0.525 -1.82,-0.525 ; -5.88,-0.415 -1.907,-0.415 ; -5.88,-0.305 -1.966,-0.305 ; -5.88,-0.195 -2.005,-0.195 ; -5.88,-0.085 -2.025,-0.085 ; -5.88,0.025 -2.03,0.025 ; -5.88,0.135 -2.018,0.135 ; -5.88,0.245 -1.989,0.245 ; -5.88,0.355 -1.942,0.355 ; -5.88,0.465 -1.871,0.465 ; -5.88,0.575 -1.767,0.575 ; -1.578,-37.525 -5.88,-37.525 -5.88,0.695 -1.578,0.695 ; 0,0.76 0.76,0.76 0.76,0
Top Assembly:
  lines w0.254: -1.42,-37.08 0,-37.08 0,-36.58 -1.42,-36.58 ; -1.42,-35.81 0,-35.81 0,-35.31 -1.42,-35.31 ; -1.42,-34.54 0,-34.54 0,-34.04 -1.42,-34.04 ; -1.42,-33.27 0,-33.27 0,-32.77 -1.42,-32.77 ; -1.42,-32 0,-32 0,-31.5 -1.42,-31.5 ; -1.42,-30.73 0,-30.73 0,-30.23 -1.42,-30.23 ; -1.42,-29.46 0,-29.46 0,-28.96 -1.42,-28.96 ; -1.42,-28.19 0,-28.19 0,-27.69 -1.42,-27.69 ; -1.42,-26.92 0,-26.92 0,-26.42 -1.42,-26.42 ; -1.42,-25.65 0,-25.65 0,-25.15 -1.42,-25.15 ; -1.42,-24.38 0,-24.38 0,-23.88 -1.42,-23.88 ; -1.42,-23.11 0,-23.11 0,-22.61 -1.42,-22.61 ; -1.42,-21.84 0,-21.84 0,-21.34 -1.42,-21.34 ; -1.42,-20.57 0,-20.57 0,-20.07 -1.42,-20.07 ; -1.42,-19.3 0,-19.3 0,-18.8 -1.42,-18.8 ; -1.42,-18.03 0,-18.03 0,-17.53 -1.42,-17.53 ; -1.42,-16.76 0,-16.76 0,-16.26 -1.42,-16.26 ; -1.42,-15.49 0,-15.49 0,-14.99 -1.42,-14.99 ; -1.42,-14.22 0,-14.22 0,-13.72 -1.42,-13.72 ; -1.42,-12.95 0,-12.95 0,-12.45 -1.42,-12.45 ; -1.42,-11.68 0,-11.68 0,-11.18 -1.42,-11.18 ; -1.42,-10.41 0,-10.41 0,-9.91 -1.42,-9.91 ; -1.42,-9.14 0,-9.14 0,-8.64 -1.42,-8.64 ; -1.42,-7.87 0,-7.87 0,-7.37 -1.42,-7.37 ; -1.42,-6.6 0,-6.6 0,-6.1 -1.42,-6.1 ; -1.42,-5.33 0,-5.33 0,-4.83 -1.42,-4.83 ; -1.42,-4.06 0,-4.06 0,-3.56 -1.42,-3.56 ; -1.42,-2.79 0,-2.79 0,-2.29 -1.42,-2.29 ; -1.42,-1.52 0,-1.52 0,-1.02 -1.42,-1.02 ; -1.42,-0.25 0,-0.25 0,0.25 -1.42,0.25 ; -1.42,0.25 -1.42,-37.465 -5.82,-37.465 -5.82,0.635 -1.805,0.635 -1.42,0.25
  text "'.Designator'" at -2.78,-22.462 h1
Top Courtyard:
  lines w0.254: -6.35,-38 1.15,-38 1.15,1.1 -6.35,1.1 -6.35,-38
Top Designator:
  text ".Designator" at -10.218,-18.958 h1.52

## PinSocket_2x30_P1.27mm_Vertical [mm]
pads (60):
  rect 1x1 hole 0.7: 1(0,0)
  round 1 hole 0.7: 2(-1.27,0) 3(0,-1.27) 4(-1.27,-1.27) 5(0,-2.54) 6(-1.27,-2.54) 7(0,-3.81) 8(-1.27,-3.81) 9(0,-5.08) 10(-1.27,-5.08) 11(0,-6.35) 12(-1.27,-6.35) 13(0,-7.62) 14(-1.27,-7.62) 15(0,-8.89) 16(-1.27,-8.89) 17(0,-10.16) 18(-1.27,-10.16) 19(0,-11.43) 20(-1.27,-11.43) 21(0,-12.7) 22(-1.27,-12.7) 23(0,-13.97) 24(-1.27,-13.97) 25(0,-15.24) 26(-1.27,-15.24) 27(0,-16.51) 28(-1.27,-16.51) 29(0,-17.78) 30(-1.27,-17.78) 31(0,-19.05) 32(-1.27,-19.05) 33(0,-20.32) 34(-1.27,-20.32) 35(0,-21.59) 36(-1.27,-21.59) 37(0,-22.86) 38(-1.27,-22.86) 39(0,-24.13) 40(-1.27,-24.13) 41(0,-25.4) 42(-1.27,-25.4) 43(0,-26.67) 44(-1.27,-26.67) 45(0,-27.94) 46(-1.27,-27.94) 47(0,-29.21) 48(-1.27,-29.21) 49(0,-30.48) 50(-1.27,-30.48) 51(0,-31.75) 52(-1.27,-31.75) 53(0,-33.02) 54(-1.27,-33.02) 55(0,-34.29) 56(-1.27,-34.29) 57(0,-35.56) 58(-1.27,-35.56) 59(0,-36.83) 60(-1.27,-36.83)
F.SilkS:
  lines w0.254: -1.578,-37.525 -2.22,-37.525 -2.22,0.695 -1.578,0.695 ; -0.962,-37.525 -0.308,-37.525 ; -0.962,0.695 -0.76,0.695 ; 0,0.76 0.95,0.76 0.95,0 ; 0.308,-37.525 0.95,-37.525 0.95,-0.635 0.76,-0.635
Top Assembly:
  lines w0.254: -2.16,-37.465 0.89,-37.465 0.89,-0.128 0.128,0.635 -2.16,0.635 -2.16,-37.465
  text "'.Designator'" at 0.205,-22.462 h1
Top Courtyard:
  lines w0.254: -2.67,-37.95 1.38,-37.95 1.38,1.15 -2.67,1.15 -2.67,-37.95
Top Designator:
  text ".Designator" at -8.263,-18.908 h1.52

## PinSocket_2x30_P1.27mm_Vertical_SMD [mm]
pads (60):
  rect 2.1x0.75 smd: 1(1.8,18.415) 2(-1.8,18.415) 3(1.8,17.145) 4(-1.8,17.145) 5(1.8,15.875) 6(-1.8,15.875) 7(1.8,14.605) 8(-1.8,14.605) 9(1.8,13.335) 10(-1.8,13.335) 11(1.8,12.065) 12(-1.8,12.065) 13(1.8,10.795) 14(-1.8,10.795) 15(1.8,9.525) 16(-1.8,9.525) 17(1.8,8.255) 18(-1.8,8.255) 19(1.8,6.985) 20(-1.8,6.985) 21(1.8,5.715) 22(-1.8,5.715) 23(1.8,4.445) 24(-1.8,4.445) 25(1.8,3.175) 26(-1.8,3.175) 27(1.8,1.905) 28(-1.8,1.905) 29(1.8,0.635) 30(-1.8,0.635) 31(1.8,-0.635) 32(-1.8,-0.635) 33(1.8,-1.905) 34(-1.8,-1.905) 35(1.8,-3.175) 36(-1.8,-3.175) 37(1.8,-4.445) 38(-1.8,-4.445) 39(1.8,-5.715) 40(-1.8,-5.715) 41(1.8,-6.985) 42(-1.8,-6.985) 43(1.8,-8.255) 44(-1.8,-8.255) 45(1.8,-9.525) 46(-1.8,-9.525) 47(1.8,-10.795) 48(-1.8,-10.795) 49(1.8,-12.065) 50(-1.8,-12.065) 51(1.8,-13.335) 52(-1.8,-13.335) 53(1.8,-14.605) 54(-1.8,-14.605) 55(1.8,-15.875) 56(-1.8,-15.875) 57(1.8,-17.145) 58(-1.8,-17.145) 59(1.8,-18.415) 60(-1.8,-18.415)
F.SilkS:
  lines w0.254: -1.33,-19.05 -1.33,-19.11 1.33,-19.11 1.33,-19.05 ; -1.33,19.05 -1.33,19.11 1.33,19.11 1.33,19.05 2.79,19.05
Top Assembly:
  drawing of 185 lines, arcs and shapes, not listed
  text "'.Designator'" at 0.84,-4.047 h1
Top Courtyard:
  lines w0.254: -3.35,-19.55 3.35,-19.55 3.35,19.55 -3.35,19.55 -3.35,-19.55
Top Designator:
  text ".Designator" at -7.618,-0.508 h1.52

## PinSocket_2x31_P1.27mm_Horizontal [mm]
pads (62):
  rect 1x1 hole 0.65: 1(0,0)
  round 1 hole 0.65: 2(-1.27,0) 3(0,-1.27) 4(-1.27,-1.27) 5(0,-2.54) 6(-1.27,-2.54) 7(0,-3.81) 8(-1.27,-3.81) 9(0,-5.08) 10(-1.27,-5.08) 11(0,-6.35) 12(-1.27,-6.35) 13(0,-7.62) 14(-1.27,-7.62) 15(0,-8.89) 16(-1.27,-8.89) 17(0,-10.16) 18(-1.27,-10.16) 19(0,-11.43) 20(-1.27,-11.43) 21(0,-12.7) 22(-1.27,-12.7) 23(0,-13.97) 24(-1.27,-13.97) 25(0,-15.24) 26(-1.27,-15.24) 27(0,-16.51) 28(-1.27,-16.51) 29(0,-17.78) 30(-1.27,-17.78) 31(0,-19.05) 32(-1.27,-19.05) 33(0,-20.32) 34(-1.27,-20.32) 35(0,-21.59) 36(-1.27,-21.59) 37(0,-22.86) 38(-1.27,-22.86) 39(0,-24.13) 40(-1.27,-24.13) 41(0,-25.4) 42(-1.27,-25.4) 43(0,-26.67) 44(-1.27,-26.67) 45(0,-27.94) 46(-1.27,-27.94) 47(0,-29.21) 48(-1.27,-29.21) 49(0,-30.48) 50(-1.27,-30.48) 51(0,-31.75) 52(-1.27,-31.75) 53(0,-33.02) 54(-1.27,-33.02) 55(0,-34.29) 56(-1.27,-34.29) 57(0,-35.56) 58(-1.27,-35.56) 59(0,-36.83) 60(-1.27,-36.83) 61(0,-38.1) 62(-1.27,-38.1)
F.SilkS:
  lines w0.254: -5.88,-37.465 -1.688,-37.465 ; -5.88,-36.195 -1.688,-36.195 ; -5.88,-34.925 -1.688,-34.925 ; -5.88,-33.655 -1.688,-33.655 ; -5.88,-32.385 -1.688,-32.385 ; -5.88,-31.115 -1.688,-31.115 ; -5.88,-29.845 -1.688,-29.845 ; -5.88,-28.575 -1.688,-28.575 ; -5.88,-27.305 -1.688,-27.305 ; -5.88,-26.035 -1.688,-26.035 ; -5.88,-24.765 -1.688,-24.765 ; -5.88,-23.495 -1.688,-23.495 ; -5.88,-22.225 -1.688,-22.225 ; -5.88,-20.955 -1.688,-20.955 ; -5.88,-19.685 -1.688,-19.685 ; -5.88,-18.415 -1.688,-18.415 ; -5.88,-17.145 -1.688,-17.145 ; -5.88,-15.875 -1.688,-15.875 ; -5.88,-14.605 -1.688,-14.605 ; -5.88,-13.335 -1.688,-13.335 ; -5.88,-12.065 -1.688,-12.065 ; -5.88,-10.795 -1.688,-10.795 ; -5.88,-9.525 -1.688,-9.525 ; -5.88,-8.255 -1.688,-8.255 ; -5.88,-6.985 -1.688,-6.985 ; -5.88,-5.715 -1.688,-5.715 ; -5.88,-4.445 -1.688,-4.445 ; -5.88,-3.175 -1.688,-3.175 ; -5.88,-1.905 -1.688,-1.905 ; -5.88,-0.635 -1.688,-0.635 ; -5.88,-0.525 -1.82,-0.525 ; -5.88,-0.415 -1.907,-0.415 ; -5.88,-0.305 -1.966,-0.305 ; -5.88,-0.195 -2.005,-0.195 ; -5.88,-0.085 -2.025,-0.085 ; -5.88,0.025 -2.03,0.025 ; -5.88,0.135 -2.018,0.135 ; -5.88,0.245 -1.989,0.245 ; -5.88,0.355 -1.942,0.355 ; -5.88,0.465 -1.871,0.465 ; -5.88,0.575 -1.767,0.575 ; -1.578,-38.795 -5.88,-38.795 -5.88,0.695 -1.578,0.695 ; 0,0.76 0.76,0.76 0.76,0
Top Assembly:
  lines w0.254: -1.42,-38.35 0,-38.35 0,-37.85 -1.42,-37.85 ; -1.42,-37.08 0,-37.08 0,-36.58 -1.42,-36.58 ; -1.42,-35.81 0,-35.81 0,-35.31 -1.42,-35.31 ; -1.42,-34.54 0,-34.54 0,-34.04 -1.42,-34.04 ; -1.42,-33.27 0,-33.27 0,-32.77 -1.42,-32.77 ; -1.42,-32 0,-32 0,-31.5 -1.42,-31.5 ; -1.42,-30.73 0,-30.73 0,-30.23 -1.42,-30.23 ; -1.42,-29.46 0,-29.46 0,-28.96 -1.42,-28.96 ; -1.42,-28.19 0,-28.19 0,-27.69 -1.42,-27.69 ; -1.42,-26.92 0,-26.92 0,-26.42 -1.42,-26.42 ; -1.42,-25.65 0,-25.65 0,-25.15 -1.42,-25.15 ; -1.42,-24.38 0,-24.38 0,-23.88 -1.42,-23.88 ; -1.42,-23.11 0,-23.11 0,-22.61 -1.42,-22.61 ; -1.42,-21.84 0,-21.84 0,-21.34 -1.42,-21.34 ; -1.42,-20.57 0,-20.57 0,-20.07 -1.42,-20.07 ; -1.42,-19.3 0,-19.3 0,-18.8 -1.42,-18.8 ; -1.42,-18.03 0,-18.03 0,-17.53 -1.42,-17.53 ; -1.42,-16.76 0,-16.76 0,-16.26 -1.42,-16.26 ; -1.42,-15.49 0,-15.49 0,-14.99 -1.42,-14.99 ; -1.42,-14.22 0,-14.22 0,-13.72 -1.42,-13.72 ; -1.42,-12.95 0,-12.95 0,-12.45 -1.42,-12.45 ; -1.42,-11.68 0,-11.68 0,-11.18 -1.42,-11.18 ; -1.42,-10.41 0,-10.41 0,-9.91 -1.42,-9.91 ; -1.42,-9.14 0,-9.14 0,-8.64 -1.42,-8.64 ; -1.42,-7.87 0,-7.87 0,-7.37 -1.42,-7.37 ; -1.42,-6.6 0,-6.6 0,-6.1 -1.42,-6.1 ; -1.42,-5.33 0,-5.33 0,-4.83 -1.42,-4.83 ; -1.42,-4.06 0,-4.06 0,-3.56 -1.42,-3.56 ; -1.42,-2.79 0,-2.79 0,-2.29 -1.42,-2.29 ; -1.42,-1.52 0,-1.52 0,-1.02 -1.42,-1.02 ; -1.42,-0.25 0,-0.25 0,0.25 -1.42,0.25 ; -1.42,0.25 -1.42,-38.735 -5.82,-38.735 -5.82,0.635 -1.805,0.635 -1.42,0.25
  text "'.Designator'" at -2.78,-23.097 h1
Top Courtyard:
  lines w0.254: -6.35,-39.25 1.15,-39.25 1.15,1.2 -6.35,1.2 -6.35,-39.25
Top Designator:
  text ".Designator" at -10.218,-19.533 h1.52

## PinSocket_2x31_P1.27mm_Vertical [mm]
pads (62):
  rect 1x1 hole 0.7: 1(0,0)
  round 1 hole 0.7: 2(-1.27,0) 3(0,-1.27) 4(-1.27,-1.27) 5(0,-2.54) 6(-1.27,-2.54) 7(0,-3.81) 8(-1.27,-3.81) 9(0,-5.08) 10(-1.27,-5.08) 11(0,-6.35) 12(-1.27,-6.35) 13(0,-7.62) 14(-1.27,-7.62) 15(0,-8.89) 16(-1.27,-8.89) 17(0,-10.16) 18(-1.27,-10.16) 19(0,-11.43) 20(-1.27,-11.43) 21(0,-12.7) 22(-1.27,-12.7) 23(0,-13.97) 24(-1.27,-13.97) 25(0,-15.24) 26(-1.27,-15.24) 27(0,-16.51) 28(-1.27,-16.51) 29(0,-17.78) 30(-1.27,-17.78) 31(0,-19.05) 32(-1.27,-19.05) 33(0,-20.32) 34(-1.27,-20.32) 35(0,-21.59) 36(-1.27,-21.59) 37(0,-22.86) 38(-1.27,-22.86) 39(0,-24.13) 40(-1.27,-24.13) 41(0,-25.4) 42(-1.27,-25.4) 43(0,-26.67) 44(-1.27,-26.67) 45(0,-27.94) 46(-1.27,-27.94) 47(0,-29.21) 48(-1.27,-29.21) 49(0,-30.48) 50(-1.27,-30.48) 51(0,-31.75) 52(-1.27,-31.75) 53(0,-33.02) 54(-1.27,-33.02) 55(0,-34.29) 56(-1.27,-34.29) 57(0,-35.56) 58(-1.27,-35.56) 59(0,-36.83) 60(-1.27,-36.83) 61(0,-38.1) 62(-1.27,-38.1)
F.SilkS:
  lines w0.254: -1.578,-38.795 -2.22,-38.795 -2.22,0.695 -1.578,0.695 ; -0.962,-38.795 -0.308,-38.795 ; -0.962,0.695 -0.76,0.695 ; 0,0.76 0.95,0.76 0.95,0 ; 0.308,-38.795 0.95,-38.795 0.95,-0.635 0.76,-0.635
Top Assembly:
  lines w0.254: -2.16,-38.735 0.89,-38.735 0.89,-0.128 0.128,0.635 -2.16,0.635 -2.16,-38.735
  text "'.Designator'" at 0.205,-23.097 h1
Top Courtyard:
  lines w0.254: -2.67,-39.3 1.38,-39.3 1.38,1.15 -2.67,1.15 -2.67,-39.3
Top Designator:
  text ".Designator" at -8.263,-19.583 h1.52